# Altium footprint library LC-SMC(DO-214AB).PcbLib: 5 footprints
Each footprint in its own frame and in the unit in brackets; x right, y up, seen from the top. Pads: shape width x height; smd on the part's side, far side on the other; paste and mask are expansions set on the pad; w line width, h text height; cw(c..) or ccw(c..) is an arc to the next point about the centre after c.
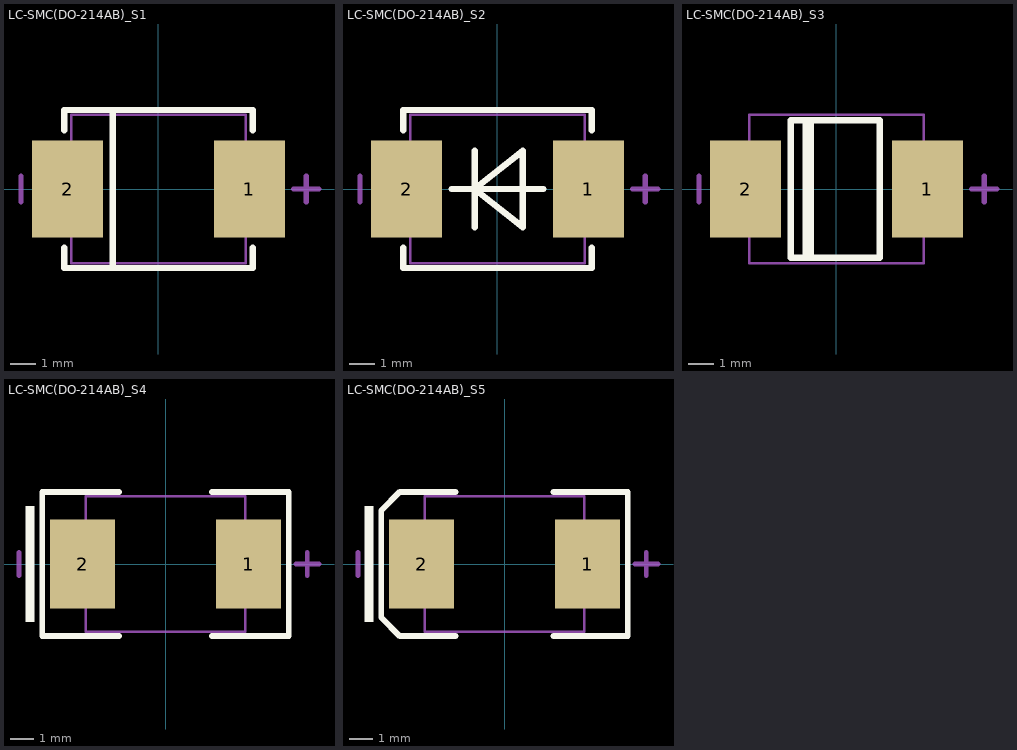
[diagram p0: the footprints below, top view; thin cyan lines are the x and y axes]

## LC-SMC(DO-214AB)_S1 [mil]
pads (2):
  rect 110x150 smd: 1(140.49,0) 2(-140.49,0)
Top Overlay:
  lines w10: -145.67,-90.55 -145.67,-122.05 145.67,-122.05 145.67,-90.55 ; -145.67,90.55 -145.67,122.05 145.67,122.05 145.67,90.55 ; -70.87,-122.05 -70.87,122.05
Mechanical 13:
  lines w3.94: -135.04,-114.96 -135.04,114.96 135.04,114.96 135.04,-114.96 -135.04,-114.96
Mechanical 15:
  lines w8: -212.6,-19.68 -212.6,19.69 ; 208.66,0 248.03,0 ; 228.35,-19.68 228.35,19.69

## LC-SMC(DO-214AB)_S2 [mil]
pads (2):
  rect 110x150 smd: 1(140.49,0) 2(-140.49,0)
Top Overlay:
  lines w10: -145.67,-90.55 -145.67,-122.05 145.67,-122.05 145.67,-90.55 ; -145.67,90.55 -145.67,122.05 145.67,122.05 145.67,90.55 ; -70.87,0 70.87,0 ; -35.43,-59.05 -35.43,59.06 ; -35.43,0 39.37,-59.05 39.37,59.06 -35.43,0
Mechanical 13:
  lines w3.94: -135.04,-114.96 135.04,-114.96 135.04,114.96 -135.04,114.96 -135.04,-114.96
Mechanical 15:
  lines w8: -212.6,-19.68 -212.6,19.69 ; 208.66,0 248.03,0 ; 228.35,-19.68 228.35,19.69

## LC-SMC(DO-214AB)_S3 [mil]
pads (2):
  rect 110x150 smd: 1(140.49,0) 2(-140.49,0)
Top Overlay:
  lines w10: -47.24,-106.3 -47.24,106.3 ; -39.37,-106.3 -39.37,106.3 ; -70.87,-106.3 -70.87,106.3 66.93,106.3 66.93,-106.3 -70.87,-106.3
Mechanical 13:
  lines w3.94: -135.04,-114.96 135.04,-114.96 135.04,114.96 -135.04,114.96 -135.04,-114.96
Mechanical 15:
  lines w8: -212.6,-19.68 -212.6,19.69 ; 208.66,0 248.03,0 ; 228.35,-19.68 228.35,19.69

## LC-SMC(DO-214AB)_S4 [mil]
pads (2):
  rect 110x150 smd: 1(140.49,0) 2(-140.49,0)
Top Overlay:
  rectangle: -237.2,-98.43 -221.46,98.43
  lines w10: -78.74,-122.05 -208.66,-122.05 -208.66,122.05 -78.74,122.05 ; 78.74,-122.05 208.66,-122.05 208.66,122.05 78.74,122.05
Mechanical 13:
  lines w3.94: -135.04,-114.96 135.04,-114.96 135.04,114.96 -135.04,114.96 -135.04,-114.96
Mechanical 15:
  lines w8: -248.03,-19.68 -248.03,19.68 ; 220.47,0 259.84,0 ; 240.16,-19.68 240.16,19.68

## LC-SMC(DO-214AB)_S5 [mil]
pads (2):
  rect 110x150 smd: 1(140.49,0) 2(-140.49,0)
Top Overlay:
  rectangle: -237.2,-98.43 -221.46,98.43
  lines w10: -82.68,-122.05 -177.17,-122.05 -208.66,-90.55 -208.66,90.55 -177.17,122.05 -82.68,122.05 ; 82.68,-122.05 208.66,-122.05 208.66,122.05 82.68,122.05
Mechanical 13:
  lines w3.94: -135.04,-114.96 -135.04,114.96 135.04,114.96 135.04,-114.96 -135.04,-114.96
Mechanical 15:
  lines w8: -248.03,-19.68 -248.03,19.68 ; 220.47,0 259.84,0 ; 240.16,-19.68 240.16,19.68